# Altium footprint library con-phoenix-508.PCBLIB: 90 footprints (part 5 of 6)
Each footprint in its own frame and in the unit in brackets; x right, y up, seen from the top. Pads: shape width x height; smd on the part's side, far side on the other; paste and mask are expansions set on the pad; w line width, h text height; cw(c..) or ccw(c..) is an arc to the next point about the centre after c.
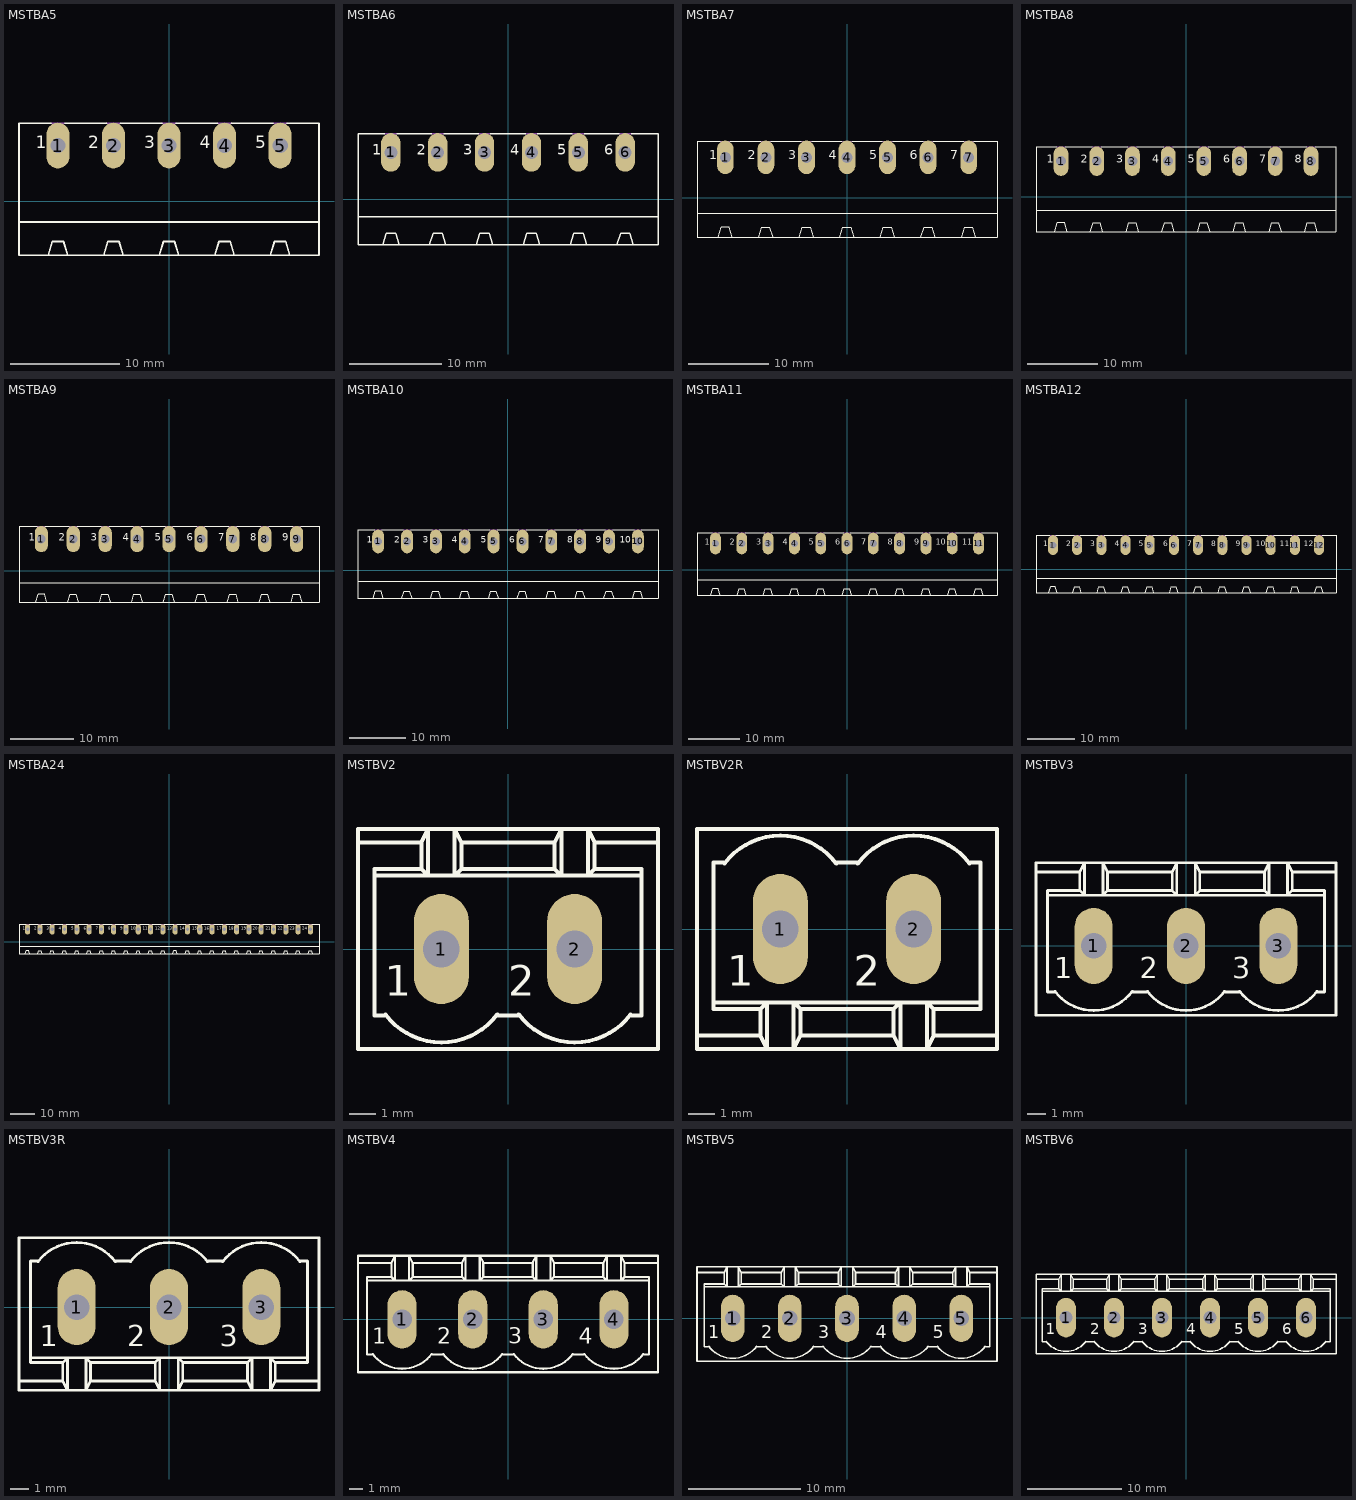
[diagram p4: the footprints below, top view; thin cyan lines are the x and y axes]

## MSTBA5 [mil]
pads (5):
  oval 82.5x165 hole 55: 1(-400,200) 2(-200,200) 3(0,200) 4(200,200) 5(400,200)
Top Overlay:
  lines w6: -425,280 -540,280 -540,-75 ; -375,280 -225,280 ; -175,280 -25,280 ; 25,280 175,280 ; 225,280 375,280 ; 425,280 540,280 540,-75 ; -540,-75 540,-75 ; -540,-75 -540,-195 -435,-195 ; -435,-195 -420,-145 -380,-145 -365,-195 ; -435,-195 -365,-195 ; -365,-195 -235,-195 ; -235,-195 -220,-145 -180,-145 -165,-195 ; -235,-195 -165,-195 ; -165,-195 -35,-195 ; -35,-195 35,-195 ; -35,-195 -20,-145 20,-145 35,-195 ; 35,-195 165,-195 ; 165,-195 235,-195 ; 165,-195 180,-145 220,-145 235,-195 ; 235,-195 365,-195 ; 365,-195 435,-195 ; 365,-195 380,-145 420,-145 435,-195 ; 435,-195 540,-195 540,-75
  text "1" at -480,175 h77.5
  text "2" at -290,175 h77.5
  text "3" at -90,175 h77.5
  text "4" at 110,175 h77.5
  text "5" at 310,175 h77.5
Courtyard Bottom:
  lines w6: -425,280 -375,280 ; -225,280 -175,280 ; -25,280 25,280 ; 175,280 225,280 ; 375,280 425,280

## MSTBA6 [mil]
pads (6):
  oval 82.5x165 hole 55: 1(-500,200) 2(-300,200) 3(-100,200) 4(100,200) 5(300,200) 6(500,200)
Top Overlay:
  lines w6: -525,280 -640,280 -640,-75 ; -475,280 -325,280 ; -275,280 -125,280 ; -75,280 75,280 ; 125,280 275,280 ; 325,280 475,280 ; 525,280 640,280 640,-75 ; -640,-75 640,-75 ; -640,-75 -640,-195 -535,-195 ; -535,-195 -520,-145 -480,-145 -465,-195 ; -535,-195 -465,-195 ; -465,-195 -335,-195 ; -335,-195 -320,-145 -280,-145 -265,-195 ; -335,-195 -265,-195 ; -265,-195 -135,-195 ; -135,-195 -65,-195 ; -135,-195 -120,-145 -80,-145 -65,-195 ; -65,-195 65,-195 ; 65,-195 135,-195 ; 65,-195 80,-145 120,-145 135,-195 ; 135,-195 265,-195 ; 265,-195 335,-195 ; 265,-195 280,-145 320,-145 335,-195 ; 335,-195 465,-195 ; 465,-195 535,-195 ; 465,-195 480,-145 520,-145 535,-195 ; 535,-195 640,-195 640,-75
  text "1" at -580,175 h77.5
  text "2" at -390,175 h77.5
  text "3" at -190,175 h77.5
  text "4" at 10,175 h77.5
  text "5" at 210,175 h77.5
  text "6" at 410,175 h77.5
Courtyard Bottom:
  lines w6: -525,280 -475,280 ; -325,280 -275,280 ; -125,280 -75,280 ; 75,280 125,280 ; 275,280 325,280 ; 475,280 525,280

## MSTBA7 [mil]
pads (7):
  oval 82.5x165 hole 55: 1(-600,200) 2(-400,200) 3(-200,200) 4(0,200) 5(200,200) 6(400,200) 7(600,200)
Top Overlay:
  lines w6: -625,280 -740,280 -740,-75 ; -575,280 -425,280 ; -375,280 -225,280 ; -175,280 -25,280 ; 25,280 175,280 ; 225,280 375,280 ; 425,280 575,280 ; 625,280 740,280 740,-75 ; -740,-75 740,-75 ; -740,-75 -740,-195 -635,-195 ; -635,-195 -620,-145 -580,-145 -565,-195 ; -635,-195 -565,-195 ; -565,-195 -435,-195 ; -435,-195 -420,-145 -380,-145 -365,-195 ; -435,-195 -365,-195 ; -365,-195 -235,-195 ; -235,-195 -165,-195 ; -235,-195 -220,-145 -180,-145 -165,-195 ; -165,-195 -35,-195 ; -35,-195 35,-195 ; -35,-195 -20,-145 20,-145 35,-195 ; 35,-195 165,-195 ; 165,-195 235,-195 ; 165,-195 180,-145 220,-145 235,-195 ; 235,-195 365,-195 ; 365,-195 435,-195 ; 365,-195 380,-145 420,-145 435,-195 ; 435,-195 565,-195 ; 565,-195 635,-195 ; 565,-195 580,-145 620,-145 635,-195 ; 635,-195 740,-195 740,-75
  text "1" at -680,175 h77.5
  text "2" at -490,175 h77.5
  text "3" at -290,175 h77.5
  text "4" at -90,175 h77.5
  text "5" at 110,175 h77.5
  text "6" at 310,175 h77.5
  text "7" at 510,175 h77.5
Courtyard Bottom:
  lines w6: -625,280 -575,280 ; -425,280 -375,280 ; -225,280 -175,280 ; -25,280 25,280 ; 175,280 225,280 ; 375,280 425,280 ; 575,280 625,280

## MSTBA8 [mil]
pads (8):
  oval 82.5x165 hole 55: 1(-700,200) 2(-500,200) 3(-300,200) 4(-100,200) 5(100,200) 6(300,200) 7(500,200) 8(700,200)
Top Overlay:
  lines w6: -725,280 -840,280 -840,-75 ; -675,280 -525,280 ; -475,280 -325,280 ; -275,280 -125,280 ; -75,280 75,280 ; 125,280 275,280 ; 325,280 475,280 ; 525,280 675,280 ; 725,280 840,280 840,-75 ; -840,-75 840,-75 ; -840,-75 -840,-195 -735,-195 ; -735,-195 -720,-145 -680,-145 -665,-195 ; -735,-195 -665,-195 ; -665,-195 -535,-195 ; -535,-195 -520,-145 -480,-145 -465,-195 ; -535,-195 -465,-195 ; -465,-195 -335,-195 ; -335,-195 -265,-195 ; -335,-195 -320,-145 -280,-145 -265,-195 ; -265,-195 -135,-195 ; -135,-195 -65,-195 ; -135,-195 -120,-145 -80,-145 -65,-195 ; -65,-195 65,-195 ; 65,-195 135,-195 ; 65,-195 80,-145 120,-145 135,-195 ; 135,-195 265,-195 ; 265,-195 335,-195 ; 265,-195 280,-145 320,-145 335,-195 ; 335,-195 465,-195 ; 465,-195 535,-195 ; 465,-195 480,-145 520,-145 535,-195 ; 535,-195 665,-195 ; 665,-195 735,-195 ; 665,-195 680,-145 720,-145 735,-195 ; 735,-195 840,-195 840,-75
  text "1" at -780,175 h77.5
  text "2" at -590,175 h77.5
  text "3" at -390,175 h77.5
  text "4" at -190,175 h77.5
  text "5" at 10,175 h77.5
  text "6" at 210,175 h77.5
  text "7" at 410,175 h77.5
  text "8" at 610,175 h77.5
Courtyard Bottom:
  lines w6: -725,280 -675,280 ; -525,280 -475,280 ; -325,280 -275,280 ; -125,280 -75,280 ; 75,280 125,280 ; 275,280 325,280 ; 475,280 525,280 ; 675,280 725,280

## MSTBA9 [mil]
pads (9):
  oval 82.5x165 hole 55: 1(-800,200) 2(-600,200) 3(-400,200) 4(-200,200) 5(0,200) 6(200,200) 7(400,200) 8(600,200) 9(800,200)
Top Overlay:
  lines w6: -825,280 -940,280 -940,-75 ; -775,280 -625,280 ; -575,280 -425,280 ; -375,280 -225,280 ; -175,280 -25,280 ; 25,280 175,280 ; 225,280 375,280 ; 425,280 575,280 ; 625,280 775,280 ; 825,280 940,280 940,-75 ; -940,-75 940,-75 ; -940,-75 -940,-195 -835,-195 ; -835,-195 -820,-145 -780,-145 -765,-195 ; -835,-195 -765,-195 ; -765,-195 -635,-195 ; -635,-195 -620,-145 -580,-145 -565,-195 ; -635,-195 -565,-195 ; -565,-195 -435,-195 ; -435,-195 -365,-195 ; -435,-195 -420,-145 -380,-145 -365,-195 ; -365,-195 -235,-195 ; -235,-195 -165,-195 ; -235,-195 -220,-145 -180,-145 -165,-195 ; -165,-195 -35,-195 ; -35,-195 35,-195 ; -35,-195 -20,-145 20,-145 35,-195 ; 35,-195 165,-195 ; 165,-195 235,-195 ; 165,-195 180,-145 220,-145 235,-195 ; 235,-195 365,-195 ; 365,-195 435,-195 ; 365,-195 380,-145 420,-145 435,-195 ; 435,-195 565,-195 ; 565,-195 635,-195 ; 565,-195 580,-145 620,-145 635,-195 ; 635,-195 765,-195 ; 765,-195 835,-195 ; 765,-195 780,-145 820,-145 835,-195 ; 835,-195 940,-195 940,-75
  text "1" at -880,175 h77.5
  text "2" at -690,175 h77.5
  text "3" at -490,175 h77.5
  text "4" at -290,175 h77.5
  text "5" at -90,175 h77.5
  text "6" at 110,175 h77.5
  text "7" at 310,175 h77.5
  text "8" at 510,175 h77.5
  text "9" at 710,175 h77.5
Courtyard Bottom:
  lines w6: -825,280 -775,280 ; -625,280 -575,280 ; -425,280 -375,280 ; -225,280 -175,280 ; -25,280 25,280 ; 175,280 225,280 ; 375,280 425,280 ; 575,280 625,280 ; 775,280 825,280

## MSTBA10 [mil]
pads (10):
  oval 82.5x165 hole 55: 1(-900,200) 2(-700,200) 3(-500,200) 4(-300,200) 5(-100,200) 6(100,200) 7(300,200) 8(500,200) 9(700,200) 10(900,200)
Top Overlay:
  lines w6: -925,280 -1040,280 -1040,-75 ; -875,280 -725,280 ; -675,280 -525,280 ; -475,280 -325,280 ; -275,280 -125,280 ; -75,280 75,280 ; 125,280 275,280 ; 325,280 475,280 ; 525,280 675,280 ; 725,280 875,280 ; 925,280 1040,280 1040,-75 ; -1040,-75 1040,-75 ; -1040,-75 -1040,-195 -935,-195 ; -935,-195 -920,-145 -880,-145 -865,-195 ; -935,-195 -865,-195 ; -865,-195 -735,-195 ; -735,-195 -720,-145 -680,-145 -665,-195 ; -735,-195 -665,-195 ; -665,-195 -535,-195 ; -535,-195 -465,-195 ; -535,-195 -520,-145 -480,-145 -465,-195 ; -465,-195 -335,-195 ; -335,-195 -265,-195 ; -335,-195 -320,-145 -280,-145 -265,-195 ; -265,-195 -135,-195 ; -135,-195 -65,-195 ; -135,-195 -120,-145 -80,-145 -65,-195 ; -65,-195 65,-195 ; 65,-195 135,-195 ; 65,-195 80,-145 120,-145 135,-195 ; 135,-195 265,-195 ; 265,-195 335,-195 ; 265,-195 280,-145 320,-145 335,-195 ; 335,-195 465,-195 ; 465,-195 535,-195 ; 465,-195 480,-145 520,-145 535,-195 ; 535,-195 665,-195 ; 665,-195 735,-195 ; 665,-195 680,-145 720,-145 735,-195 ; 735,-195 865,-195 ; 865,-195 935,-195 ; 865,-195 880,-145 920,-145 935,-195 ; 935,-195 1040,-195 1040,-75
  text "1" at -980,175 h77.5
  text "2" at -790,175 h77.5
  text "3" at -590,175 h77.5
  text "4" at -390,175 h77.5
  text "5" at -190,175 h77.5
  text "6" at 10,175 h77.5
  text "7" at 210,175 h77.5
  text "8" at 410,175 h77.5
  text "9" at 610,175 h77.5
  text "10" at 775,175 h77.5
Courtyard Bottom:
  lines w6: -925,280 -875,280 ; -725,280 -675,280 ; -525,280 -475,280 ; -325,280 -275,280 ; -125,280 -75,280 ; 75,280 125,280 ; 275,280 325,280 ; 475,280 525,280 ; 675,280 725,280 ; 875,280 925,280

## MSTBA11 [mil]
pads (11):
  oval 82.5x165 hole 55: 1(-1000,200) 2(-800,200) 3(-600,200) 4(-400,200) 5(-200,200) 6(0,200) 7(200,200) 8(400,200) 9(600,200) 10(800,200) 11(1000,200)
Top Overlay:
  lines w6: -1025,280 -1140,280 -1140,-75 ; -975,280 -825,280 ; -775,280 -625,280 ; -575,280 -425,280 ; -375,280 -225,280 ; -175,280 -25,280 ; 25,280 175,280 ; 225,280 375,280 ; 425,280 575,280 ; 625,280 775,280 ; 825,280 975,280 ; 1025,280 1140,280 1140,-75 ; -1140,-75 1140,-75 ; -1140,-75 -1140,-195 -1035,-195 ; -1035,-195 -1020,-145 -980,-145 -965,-195 ; -1035,-195 -965,-195 ; -965,-195 -835,-195 ; -835,-195 -820,-145 -780,-145 -765,-195 ; -835,-195 -765,-195 ; -765,-195 -635,-195 ; -635,-195 -565,-195 ; -635,-195 -620,-145 -580,-145 -565,-195 ; -565,-195 -435,-195 ; -435,-195 -365,-195 ; -435,-195 -420,-145 -380,-145 -365,-195 ; -365,-195 -235,-195 ; -235,-195 -165,-195 ; -235,-195 -220,-145 -180,-145 -165,-195 ; -165,-195 -35,-195 ; -35,-195 35,-195 ; -35,-195 -20,-145 20,-145 35,-195 ; 35,-195 165,-195 ; 165,-195 235,-195 ; 165,-195 180,-145 220,-145 235,-195 ; 235,-195 365,-195 ; 365,-195 435,-195 ; 365,-195 380,-145 420,-145 435,-195 ; 435,-195 565,-195 ; 565,-195 635,-195 ; 565,-195 580,-145 620,-145 635,-195 ; 635,-195 765,-195 ; 765,-195 835,-195 ; 765,-195 780,-145 820,-145 835,-195 ; 835,-195 965,-195 ; 965,-195 1035,-195 ; 965,-195 980,-145 1020,-145 1035,-195 ; 1035,-195 1140,-195 1140,-75
  text "1" at -1080,175 h77.5
  text "2" at -890,175 h77.5
  text "3" at -690,175 h77.5
  text "4" at -490,175 h77.5
  text "5" at -290,175 h77.5
  text "6" at -90,175 h77.5
  text "7" at 110,175 h77.5
  text "8" at 310,175 h77.5
  text "9" at 510,175 h77.5
  text "10" at 675,175 h77.5
  text "11" at 875,175 h77.5
Courtyard Bottom:
  lines w6: -1025,280 -975,280 ; -825,280 -775,280 ; -625,280 -575,280 ; -425,280 -375,280 ; -225,280 -175,280 ; -25,280 25,280 ; 175,280 225,280 ; 375,280 425,280 ; 575,280 625,280 ; 775,280 825,280 ; 975,280 1025,280

## MSTBA12 [mil]
pads (12):
  oval 82.5x165 hole 55: 1(-1100,200) 2(-900,200) 3(-700,200) 4(-500,200) 5(-300,200) 6(-100,200) 7(100,200) 8(300,200) 9(500,200) 10(700,200) 11(900,200) 12(1100,200)
Top Overlay:
  lines w6: -1125,280 -1240,280 -1240,-75 ; -1075,280 -925,280 ; -875,280 -725,280 ; -675,280 -525,280 ; -475,280 -325,280 ; -275,280 -125,280 ; -75,280 75,280 ; 125,280 275,280 ; 325,280 475,280 ; 525,280 675,280 ; 725,280 875,280 ; 925,280 1075,280 ; 1125,280 1240,280 1240,-75 ; -1240,-75 1240,-75 ; -1240,-75 -1240,-195 -1135,-195 ; -1135,-195 -1120,-145 -1080,-145 -1065,-195 ; -1135,-195 -1065,-195 ; -1065,-195 -935,-195 ; -935,-195 -920,-145 -880,-145 -865,-195 ; -935,-195 -865,-195 ; -865,-195 -735,-195 ; -735,-195 -665,-195 ; -735,-195 -720,-145 -680,-145 -665,-195 ; -665,-195 -535,-195 ; -535,-195 -465,-195 ; -535,-195 -520,-145 -480,-145 -465,-195 ; -465,-195 -335,-195 ; -335,-195 -265,-195 ; -335,-195 -320,-145 -280,-145 -265,-195 ; -265,-195 -135,-195 ; -135,-195 -65,-195 ; -135,-195 -120,-145 -80,-145 -65,-195 ; -65,-195 65,-195 ; 65,-195 135,-195 ; 65,-195 80,-145 120,-145 135,-195 ; 135,-195 265,-195 ; 265,-195 335,-195 ; 265,-195 280,-145 320,-145 335,-195 ; 335,-195 465,-195 ; 465,-195 535,-195 ; 465,-195 480,-145 520,-145 535,-195 ; 535,-195 665,-195 ; 665,-195 735,-195 ; 665,-195 680,-145 720,-145 735,-195 ; 735,-195 865,-195 ; 865,-195 935,-195 ; 865,-195 880,-145 920,-145 935,-195 ; 935,-195 1065,-195 ; 1065,-195 1135,-195 ; 1065,-195 1080,-145 1120,-145 1135,-195 ; 1135,-195 1240,-195 1240,-75
  text "1" at -1180,175 h77.5
  text "2" at -990,175 h77.5
  text "3" at -790,175 h77.5
  text "4" at -590,175 h77.5
  text "5" at -390,175 h77.5
  text "6" at -190,175 h77.5
  text "7" at 10,175 h77.5
  text "8" at 210,175 h77.5
  text "9" at 410,175 h77.5
  text "10" at 575,175 h77.5
  text "11" at 775,175 h77.5
  text "12" at 975,175 h77.5
Courtyard Bottom:
  lines w6: -1125,280 -1075,280 ; -925,280 -875,280 ; -725,280 -675,280 ; -525,280 -475,280 ; -325,280 -275,280 ; -125,280 -75,280 ; 75,280 125,280 ; 275,280 325,280 ; 475,280 525,280 ; 675,280 725,280 ; 875,280 925,280 ; 1075,280 1125,280

## MSTBA24 [mil]
pads (24):
  oval 82.5x165 hole 55: 1(-2300,200) 2(-2100,200) 3(-1900,200) 4(-1700,200) 5(-1500,200) 6(-1300,200) 7(-1100,200) 8(-900,200) 9(-700,200) 10(-500,200) 11(-300,200) 12(-100,200) 13(100,200) 14(300,200) 15(500,200) 16(700,200) 17(900,200) 18(1100,200) 19(1300,200) 20(1500,200) 21(1700,200) 22(1900,200) 23(2100,200) 24(2300,200)
Top Overlay:
  drawing of 151 lines, arcs and shapes, not listed
  text "1" at -2380,175 h77.5
  text "2" at -2190,175 h77.5
  text "3" at -1990,175 h77.5
  text "4" at -1790,175 h77.5
  text "5" at -1590,175 h77.5
  text "6" at -1390,175 h77.5
  text "7" at -1190,175 h77.5
  text "8" at -990,175 h77.5
  text "9" at -790,175 h77.5
  text "10" at -625,175 h77.5
  text "11" at -425,175 h77.5
  text "12" at -225,175 h77.5
  text "13" at -25,175 h77.5
  text "14" at 175,175 h77.5
  text "15" at 375,175 h77.5
  text "16" at 575,175 h77.5
  text "17" at 775,175 h77.5
  text "18" at 975,175 h77.5
  text "19" at 1175,175 h77.5
  text "20" at 1365,175 h77.5
  text "21" at 1575,175 h77.5
  text "22" at 1765,175 h77.5
  text "23" at 1965,175 h77.5
  text "24" at 2165,175 h77.5
Courtyard Bottom:
  lines w6: -2325,280 -2275,280 ; -2125,280 -2075,280 ; -1925,280 -1875,280 ; -1725,280 -1675,280 ; -1525,280 -1475,280 ; -1325,280 -1275,280 ; -1125,280 -1075,280 ; -925,280 -875,280 ; -725,280 -675,280 ; -525,280 -475,280 ; -325,280 -275,280 ; -125,280 -75,280 ; 75,280 125,280 ; 275,280 325,280 ; 475,280 525,280 ; 675,280 725,280 ; 875,280 925,280 ; 1075,280 1125,280 ; 1275,280 1325,280 ; 1475,280 1525,280 ; 1675,280 1725,280 ; 1875,280 1925,280 ; 2075,280 2125,280 ; 2275,280 2325,280

## MSTBV2 [mil]
pads (2):
  oval 82.5x165 hole 55: 1(-100,0) 2(100,0)
Top Overlay:
  lines w6: -184,-98 ccw(c-100,-35) -100,-140 ccw(c-100,-35) -16,-98 ; -183,-100 -200,-100 -200,110 ; -15,-100 15,-100 ; 16,-98 ccw(c100,-35) 100,-140 ccw(c100,-35) 184,-98 ; 183,-100 200,-100 200,110 ; -225,160 -225,180 -120,180 ; -225,160 -225,-150 225,-150 225,160 ; -225,160 -130,160 ; -200,110 -200,120 -130,120 ; -200,110 -120,110 ; -130,120 -130,160 ; -130,120 -120,110 ; -130,160 -120,180 ; -120,110 -80,110 ; -120,110 -120,180 ; -120,180 -80,180 ; -80,110 80,110 ; -80,110 -80,180 ; -80,110 -70,120 ; -80,180 80,180 ; -80,180 -70,160 ; -70,120 70,120 ; -70,120 -70,160 ; -70,160 70,160 ; 70,120 70,160 ; 70,120 80,110 ; 70,160 80,180 ; 80,110 120,110 ; 80,110 80,180 ; 80,180 120,180 ; 120,110 200,110 ; 120,110 120,180 ; 120,110 130,120 ; 120,180 225,180 225,160 ; 120,180 130,160 ; 130,120 130,160 ; 130,120 200,120 200,110 ; 130,160 225,160
  text "1" at -185,-85 h77.5
  text "2" at 0,-85 h77.5
Courtyard Bottom:
  lines w6: -125,-25 -125,25 ; -125,-25 -75,-25 ; -125,-25 -75,25 ; -125,25 -75,25 ; -125,25 -75,-25 ; -75,-25 -75,25 ; 75,-25 75,25 ; 75,-25 125,-25 ; 75,-25 125,25 ; 75,25 125,25 ; 75,25 125,-25 ; 125,-25 125,25

## MSTBV2R [mil]
pads (2):
  oval 82.5x165 hole 55: 1(-100,0) 2(100,0)
Top Overlay:
  lines w6: -184,98 cw(c-100,35) -100,140 cw(c-100,35) -16,98 ; -183,100 -200,100 -200,-110 ; -15,100 15,100 ; 16,98 cw(c100,35) 100,140 cw(c100,35) 184,98 ; 183,100 200,100 200,-110 ; -225,-160 -225,150 225,150 225,-160 ; -225,-160 -225,-180 -120,-180 ; -225,-160 -130,-160 ; -200,-110 -200,-120 -130,-120 ; -200,-110 -120,-110 ; -130,-160 -120,-180 ; -130,-160 -130,-120 ; -130,-120 -120,-110 ; -120,-180 -80,-180 ; -120,-180 -120,-110 ; -120,-110 -80,-110 ; -80,-180 80,-180 ; -80,-180 -80,-110 ; -80,-180 -70,-160 ; -80,-110 80,-110 ; -80,-110 -70,-120 ; -70,-160 70,-160 ; -70,-160 -70,-120 ; -70,-120 70,-120 ; 70,-160 70,-120 ; 70,-160 80,-180 ; 70,-120 80,-110 ; 80,-180 120,-180 ; 80,-180 80,-110 ; 80,-110 120,-110 ; 120,-180 225,-180 225,-160 ; 120,-180 120,-110 ; 120,-180 130,-160 ; 120,-110 200,-110 ; 120,-110 130,-120 ; 130,-160 225,-160 ; 130,-160 130,-120 ; 130,-120 200,-120 200,-110
  text "1" at -180,-100 h77.5
  text "2" at 10,-100 h77.5
Courtyard Bottom:
  lines w6: -125,-25 -125,25 ; -125,-25 -75,-25 ; -125,-25 -75,25 ; -125,25 -75,25 ; -125,25 -75,-25 ; -75,-25 -75,25 ; 75,-25 75,25 ; 75,-25 125,-25 ; 75,-25 125,25 ; 75,25 125,25 ; 75,25 125,-25 ; 125,-25 125,25

## MSTBV3 [mil]
pads (3):
  oval 82.5x165 hole 55: 1(-200,0) 2(0,0) 3(200,0)
Top Overlay:
  lines w6: -284,-98 ccw(c-200,-35) -200,-140 ccw(c-200,-35) -116,-98 ; -283,-100 -300,-100 -300,110 ; -115,-100 -85,-100 ; -84,-98 ccw(c0,-35) 0,-140 ccw(c0,-35) 84,-98 ; 85,-100 115,-100 ; 116,-98 ccw(c200,-35) 200,-140 ccw(c200,-35) 284,-98 ; 283,-100 300,-100 300,110 ; -325,160 -325,180 -220,180 ; -325,160 -325,-150 325,-150 325,160 ; -325,160 -230,160 ; -300,110 -300,120 -230,120 ; -300,110 -220,110 ; -230,120 -230,160 ; -230,120 -220,110 ; -230,160 -220,180 ; -220,110 -180,110 ; -220,110 -220,180 ; -220,180 -180,180 ; -180,110 -20,110 ; -180,110 -180,180 ; -180,110 -170,120 ; -180,180 -20,180 ; -180,180 -170,160 ; -170,120 -30,120 ; -170,120 -170,160 ; -170,160 -30,160 ; -30,120 -30,160 ; -30,120 -20,110 ; -30,160 -20,180 ; -20,110 20,110 ; -20,110 -20,180 ; -20,180 20,180 ; 20,110 180,110 ; 20,110 20,180 ; 20,110 30,120 ; 20,180 180,180 ; 20,180 30,160 ; 30,120 170,120 ; 30,120 30,160 ; 30,160 170,160 ; 170,120 170,160 ; 170,120 180,110 ; 170,160 180,180 ; 180,110 220,110 ; 180,110 180,180 ; 180,180 220,180 ; 220,110 300,110 ; 220,110 220,180 ; 220,110 230,120 ; 220,180 325,180 325,160 ; 220,180 230,160 ; 230,120 230,160 ; 230,120 300,120 300,110 ; 230,160 325,160
  text "1" at -285,-85 h77.5
  text "2" at -100,-85 h77.5
  text "3" at 100,-85 h77.5
Courtyard Bottom:
  lines w6: -225,-25 -225,25 ; -225,-25 -175,-25 ; -225,-25 -175,25 ; -225,25 -175,25 ; -225,25 -175,-25 ; -175,-25 -175,25 ; -25,-25 25,-25 ; -25,-25 -25,25 ; -25,-25 25,25 ; -25,25 25,25 ; -25,25 25,-25 ; 25,-25 25,25 ; 175,-25 175,25 ; 175,-25 225,-25 ; 175,-25 225,25 ; 175,25 225,25 ; 175,25 225,-25 ; 225,-25 225,25

## MSTBV3R [mil]
pads (3):
  oval 82.5x165 hole 55: 1(-200,0) 2(0,0) 3(200,0)
Top Overlay:
  lines w6: -284,98 cw(c-200,35) -200,140 cw(c-200,35) -116,98 ; -283,100 -300,100 -300,-110 ; -115,100 -85,100 ; -84,98 cw(c0,35) 0,140 cw(c0,35) 84,98 ; 85,100 115,100 ; 116,98 cw(c200,35) 200,140 cw(c200,35) 284,98 ; 283,100 300,100 300,-110 ; -325,-160 -325,150 325,150 325,-160 ; -325,-160 -325,-180 -220,-180 ; -325,-160 -230,-160 ; -300,-110 -300,-120 -230,-120 ; -300,-110 -220,-110 ; -230,-160 -220,-180 ; -230,-160 -230,-120 ; -230,-120 -220,-110 ; -220,-180 -180,-180 ; -220,-180 -220,-110 ; -220,-110 -180,-110 ; -180,-180 -20,-180 ; -180,-180 -180,-110 ; -180,-180 -170,-160 ; -180,-110 -20,-110 ; -180,-110 -170,-120 ; -170,-160 -30,-160 ; -170,-160 -170,-120 ; -170,-120 -30,-120 ; -30,-160 -30,-120 ; -30,-160 -20,-180 ; -30,-120 -20,-110 ; -20,-180 20,-180 ; -20,-180 -20,-110 ; -20,-110 20,-110 ; 20,-180 180,-180 ; 20,-180 20,-110 ; 20,-180 30,-160 ; 20,-110 180,-110 ; 20,-110 30,-120 ; 30,-160 170,-160 ; 30,-160 30,-120 ; 30,-120 170,-120 ; 170,-160 170,-120 ; 170,-160 180,-180 ; 170,-120 180,-110 ; 180,-180 220,-180 ; 180,-180 180,-110 ; 180,-110 220,-110 ; 220,-180 325,-180 325,-160 ; 220,-180 220,-110 ; 220,-180 230,-160 ; 220,-110 300,-110 ; 220,-110 230,-120 ; 230,-160 325,-160 ; 230,-160 230,-120 ; 230,-120 300,-120 300,-110
  text "1" at -280,-100 h77.5
  text "2" at -90,-100 h77.5
  text "3" at 110,-100 h77.5
Courtyard Bottom:
  lines w6: -225,-25 -225,25 ; -225,-25 -175,-25 ; -225,-25 -175,25 ; -225,25 -175,25 ; -225,25 -175,-25 ; -175,-25 -175,25 ; -25,-25 25,-25 ; -25,-25 -25,25 ; -25,-25 25,25 ; -25,25 25,25 ; -25,25 25,-25 ; 25,-25 25,25 ; 175,-25 175,25 ; 175,-25 225,-25 ; 175,-25 225,25 ; 175,25 225,25 ; 175,25 225,-25 ; 225,-25 225,25

## MSTBV4 [mil]
pads (4):
  oval 82.5x165 hole 55: 1(-300,0) 2(-100,0) 3(100,0) 4(300,0)
Top Overlay:
  lines w6: -384,-98 ccw(c-300,-35) -300,-140 ccw(c-300,-35) -216,-98 ; -383,-100 -400,-100 -400,110 ; -215,-100 -185,-100 ; -184,-98 ccw(c-100,-35) -100,-140 ccw(c-100,-35) -16,-98 ; -15,-100 15,-100 ; 16,-98 ccw(c100,-35) 100,-140 ccw(c100,-35) 184,-98 ; 185,-100 215,-100 ; 216,-98 ccw(c300,-35) 300,-140 ccw(c300,-35) 384,-98 ; 383,-100 400,-100 400,110 ; -425,160 -425,180 -320,180 ; -425,160 -425,-150 425,-150 425,160 ; -425,160 -330,160 ; -400,110 -400,120 -330,120 ; -400,110 -320,110 ; -330,120 -330,160 ; -330,120 -320,110 ; -330,160 -320,180 ; -320,110 -280,110 ; -320,110 -320,180 ; -320,180 -280,180 ; -280,110 -120,110 ; -280,110 -280,180 ; -280,110 -270,120 ; -280,180 -120,180 ; -280,180 -270,160 ; -270,120 -130,120 ; -270,120 -270,160 ; -270,160 -130,160 ; -130,120 -130,160 ; -130,120 -120,110 ; -130,160 -120,180 ; -120,110 -80,110 ; -120,110 -120,180 ; -120,180 -80,180 ; -80,110 80,110 ; -80,110 -80,180 ; -80,110 -70,120 ; -80,180 80,180 ; -80,180 -70,160 ; -70,120 70,120 ; -70,120 -70,160 ; -70,160 70,160 ; 70,120 70,160 ; 70,120 80,110 ; 70,160 80,180 ; 80,110 120,110 ; 80,110 80,180 ; 80,180 120,180 ; 120,110 280,110 ; 120,110 120,180 ; 120,110 130,120 ; 120,180 280,180 ; 120,180 130,160 ; 130,120 130,160 ; 130,120 270,120 ; 130,160 270,160 ; 270,120 270,160 ; 270,120 280,110 ; 270,160 280,180 ; 280,110 320,110 ; 280,110 280,180 ; 280,180 320,180 ; 320,110 400,110 ; 320,110 320,180 ; 320,110 330,120 ; 320,180 425,180 425,160 ; 320,180 330,160 ; 330,120 400,120 400,110 ; 330,120 330,160 ; 330,160 425,160
  text "1" at -385,-85 h77.5
  text "2" at -200,-85 h77.5
  text "3" at 0,-85 h77.5
  text "4" at 200,-85 h77.5
Courtyard Bottom:
  lines w6: -325,-25 -325,25 ; -325,-25 -275,-25 ; -325,-25 -275,25 ; -325,25 -275,25 ; -325,25 -275,-25 ; -275,-25 -275,25 ; -125,-25 -75,-25 ; -125,-25 -125,25 ; -125,-25 -75,25 ; -125,25 -75,25 ; -125,25 -75,-25 ; -75,-25 -75,25 ; 75,-25 75,25 ; 75,-25 125,-25 ; 75,-25 125,25 ; 75,25 125,25 ; 75,25 125,-25 ; 125,-25 125,25 ; 275,-25 275,25 ; 275,-25 325,25 ; 275,-25 325,-25 ; 275,25 325,25 ; 275,25 325,-25 ; 325,-25 325,25

## MSTBV5 [mil]
pads (5):
  oval 82.5x165 hole 55: 1(-400,0) 2(-200,0) 3(0,0) 4(200,0) 5(400,0)
Top Overlay:
  lines w6: -484,-98 ccw(c-400,-35) -400,-140 ccw(c-400,-35) -316,-98 ; -483,-100 -500,-100 -500,110 ; -315,-100 -285,-100 ; -284,-98 ccw(c-200,-35) -200,-140 ccw(c-200,-35) -116,-98 ; -115,-100 -85,-100 ; -84,-98 ccw(c0,-35) 0,-140 ccw(c0,-35) 84,-98 ; 85,-100 115,-100 ; 116,-98 ccw(c200,-35) 200,-140 ccw(c200,-35) 284,-98 ; 285,-100 315,-100 ; 316,-98 ccw(c400,-35) 400,-140 ccw(c400,-35) 484,-98 ; 483,-100 500,-100 500,110 ; -525,160 -525,180 -420,180 ; -525,160 -525,-150 525,-150 525,160 ; -525,160 -430,160 ; -500,110 -500,120 -430,120 ; -500,110 -420,110 ; -430,120 -430,160 ; -430,120 -420,110 ; -430,160 -420,180 ; -420,110 -380,110 ; -420,110 -420,180 ; -420,180 -380,180 ; -380,110 -220,110 ; -380,110 -380,180 ; -380,110 -370,120 ; -380,180 -220,180 ; -380,180 -370,160 ; -370,120 -230,120 ; -370,120 -370,160 ; -370,160 -230,160 ; -230,120 -230,160 ; -230,120 -220,110 ; -230,160 -220,180 ; -220,110 -180,110 ; -220,110 -220,180 ; -220,180 -180,180 ; -180,110 -20,110 ; -180,110 -180,180 ; -180,110 -170,120 ; -180,180 -20,180 ; -180,180 -170,160 ; -170,120 -30,120 ; -170,120 -170,160 ; -170,160 -30,160 ; -30,120 -30,160 ; -30,120 -20,110 ; -30,160 -20,180 ; -20,110 20,110 ; -20,110 -20,180 ; -20,180 20,180 ; 20,110 180,110 ; 20,110 20,180 ; 20,110 30,120 ; 20,180 180,180 ; 20,180 30,160 ; 30,120 30,160 ; 30,120 170,120 ; 30,160 170,160 ; 170,120 170,160 ; 170,120 180,110 ; 170,160 180,180 ; 180,110 220,110 ; 180,110 180,180 ; 180,180 220,180 ; 220,110 380,110 ; 220,110 220,180 ; 220,110 230,120 ; 220,180 380,180 ; 220,180 230,160 ; 230,120 370,120 ; 230,120 230,160 ; 230,160 370,160 ; 370,120 370,160 ; 370,120 380,110 ; 370,160 380,180 ; 380,110 420,110 ; 380,110 380,180 ; 380,180 420,180 ; 420,110 500,110 ; 420,110 420,180 ; 420,110 430,120 ; 420,180 525,180 525,160 ; 420,180 430,160 ; 430,120 500,120 500,110 ; 430,120 430,160 ; 430,160 525,160
  text "1" at -485,-85 h77.5
  text "2" at -300,-85 h77.5
  text "3" at -100,-85 h77.5
  text "4" at 100,-85 h77.5
  text "5" at 300,-85 h77.5
Courtyard Bottom:
  lines w6: -425,-25 -425,25 ; -425,-25 -375,-25 ; -425,-25 -375,25 ; -425,25 -375,25 ; -425,25 -375,-25 ; -375,-25 -375,25 ; -225,-25 -175,-25 ; -225,-25 -225,25 ; -225,-25 -175,25 ; -225,25 -175,25 ; -225,25 -175,-25 ; -175,-25 -175,25 ; -25,-25 -25,25 ; -25,-25 25,-25 ; -25,-25 25,25 ; -25,25 25,25 ; -25,25 25,-25 ; 25,-25 25,25 ; 175,-25 175,25 ; 175,-25 225,25 ; 175,-25 225,-25 ; 175,25 225,25 ; 175,25 225,-25 ; 225,-25 225,25 ; 375,-25 425,-25 ; 375,-25 375,25 ; 375,-25 425,25 ; 375,25 425,25 ; 375,25 425,-25 ; 425,-25 425,25

## MSTBV6 [mil]
pads (6):
  oval 82.5x165 hole 55: 1(-500,0) 2(-300,0) 3(-100,0) 4(100,0) 5(300,0) 6(500,0)
Top Overlay:
  lines w6: -584,-98 ccw(c-500,-35) -500,-140 ccw(c-500,-35) -416,-98 ; -583,-100 -600,-100 -600,110 ; -415,-100 -385,-100 ; -384,-98 ccw(c-300,-35) -300,-140 ccw(c-300,-35) -216,-98 ; -215,-100 -185,-100 ; -184,-98 ccw(c-100,-35) -100,-140 ccw(c-100,-35) -16,-98 ; -15,-100 15,-100 ; 16,-98 ccw(c100,-35) 100,-140 ccw(c100,-35) 184,-98 ; 185,-100 215,-100 ; 216,-98 ccw(c300,-35) 300,-140 ccw(c300,-35) 384,-98 ; 385,-100 415,-100 ; 416,-98 ccw(c500,-35) 500,-140 ccw(c500,-35) 584,-98 ; 583,-100 600,-100 600,110 ; -625,160 -625,180 -520,180 ; -625,160 -625,-150 625,-150 625,160 ; -625,160 -530,160 ; -600,110 -600,120 -530,120 ; -600,110 -520,110 ; -530,120 -530,160 ; -530,120 -520,110 ; -530,160 -520,180 ; -520,110 -480,110 ; -520,110 -520,180 ; -520,180 -480,180 ; -480,110 -320,110 ; -480,110 -480,180 ; -480,110 -470,120 ; -480,180 -320,180 ; -480,180 -470,160 ; -470,120 -330,120 ; -470,120 -470,160 ; -470,160 -330,160 ; -330,120 -330,160 ; -330,120 -320,110 ; -330,160 -320,180 ; -320,110 -280,110 ; -320,110 -320,180 ; -320,180 -280,180 ; -280,110 -120,110 ; -280,110 -280,180 ; -280,110 -270,120 ; -280,180 -120,180 ; -280,180 -270,160 ; -270,120 -130,120 ; -270,120 -270,160 ; -270,160 -130,160 ; -130,120 -130,160 ; -130,120 -120,110 ; -130,160 -120,180 ; -120,110 -80,110 ; -120,110 -120,180 ; -120,180 -80,180 ; -80,110 80,110 ; -80,110 -80,180 ; -80,110 -70,120 ; -80,180 80,180 ; -80,180 -70,160 ; -70,120 -70,160 ; -70,120 70,120 ; -70,160 70,160 ; 70,120 70,160 ; 70,120 80,110 ; 70,160 80,180 ; 80,110 120,110 ; 80,110 80,180 ; 80,180 120,180 ; 120,110 280,110 ; 120,110 120,180 ; 120,110 130,120 ; 120,180 280,180 ; 120,180 130,160 ; 130,120 270,120 ; 130,120 130,160 ; 130,160 270,160 ; 270,120 270,160 ; 270,120 280,110 ; 270,160 280,180 ; 280,110 320,110 ; 280,110 280,180 ; 280,180 320,180 ; 320,110 480,110 ; 320,110 320,180 ; 320,110 330,120 ; 320,180 480,180 ; 320,180 330,160 ; 330,120 470,120 ; 330,120 330,160 ; 330,160 470,160 ; 470,120 470,160 ; 470,120 480,110 ; 470,160 480,180 ; 480,110 520,110 ; 480,110 480,180 ; 480,180 520,180 ; 520,110 600,110 ; 520,110 520,180 ; 520,110 530,120 ; 520,180 625,180 625,160 ; 520,180 530,160 ; 530,120 600,120 600,110 ; 530,120 530,160 ; 530,160 625,160
  text "1" at -585,-85 h77.5
  text "2" at -400,-85 h77.5
  text "3" at -200,-85 h77.5
  text "4" at 0,-85 h77.5
  text "5" at 200,-85 h77.5
  text "6" at 400,-85 h77.5
Courtyard Bottom:
  lines w6: -525,-25 -525,25 ; -525,-25 -475,-25 ; -525,-25 -475,25 ; -525,25 -475,25 ; -525,25 -475,-25 ; -475,-25 -475,25 ; -325,-25 -275,-25 ; -325,-25 -325,25 ; -325,-25 -275,25 ; -325,25 -275,25 ; -325,25 -275,-25 ; -275,-25 -275,25 ; -125,-25 -125,25 ; -125,-25 -75,-25 ; -125,-25 -75,25 ; -125,25 -75,25 ; -125,25 -75,-25 ; -75,-25 -75,25 ; 75,-25 75,25 ; 75,-25 125,25 ; 75,-25 125,-25 ; 75,25 125,25 ; 75,25 125,-25 ; 125,-25 125,25 ; 275,-25 325,-25 ; 275,-25 275,25 ; 275,-25 325,25 ; 275,25 325,25 ; 275,25 325,-25 ; 325,-25 325,25 ; 475,-25 475,25 ; 475,-25 525,-25 ; 475,-25 525,25 ; 475,25 525,25 ; 475,25 525,-25 ; 525,-25 525,25